# Altium footprint library J_CROSSPOINT.pcblib: 1 footprints
Each footprint in its own frame and in the unit in brackets; x right, y up, seen from the top. Pads: shape width x height; smd on the part's side, far side on the other; paste and mask are expansions set on the pad; w line width, h text height; cw(c..) or ccw(c..) is an arc to the next point about the centre after c.
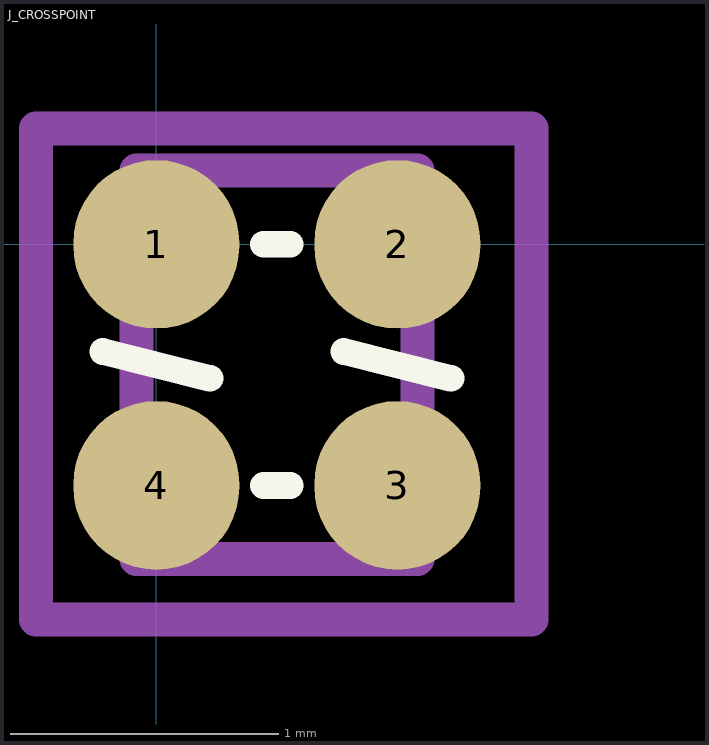
[diagram p0: the footprint, top view; thin cyan lines are the x and y axes]

## J_CROSSPOINT [mm]
pads (4):
  oval 0.62x0.63 smd mask+0.05: 1(0,0) 2(0.9,0) 3(0.9,-0.9) 4(0,-0.9)
Top Overlay:
  region: 1.926,-1.175
  region: 0.577,-1.175
  lines w0.1: -0.2,-0.4 0.2,-0.5 ; 0.4,-0.9 0.5,-0.9 ; 0.4,0 0.5,0 ; 0.7,-0.4 1.1,-0.5
Top 3D Body:
  lines w0.127: -0.075,-1.175 0.975,-1.175 0.975,0.275 -0.075,0.275 -0.075,-1.175
Top Assembly:
  lines w0.127: -0.45,-1.4 1.4,-1.4 1.4,0.432 -0.45,0.432 -0.45,-1.4
3D body "MCS 0402.stp": height 0.32, standoff 0, extent -0.05,-1.15 0.95,-0.65
3D body "MCS 0402.stp": height 0.32, standoff 0, extent -0.05,-0.25 0.95,0.25